# Altium schematic symbol library Усилители.SchLib: 1 symbol
Pins are listed as number, name and electrical type; pins without a type are passive.

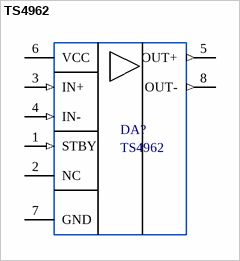
[diagram p0: symbol TS4962]

## TS4962
designator DA?
The TS4962 is a differential class-D BTL power / amplifier. It can drive up to 2.2 W into a 4 Ω load / and 1.4 W into an 8 Ω load at 5 V. It achieves / outstanding efficiency (88% typ.) compared to / standard AB-class audio amps; Part: *; Alternative part: *; ComponentLink1Description: New link; ComponentLink1URL: *; ComponentLink2Description: New link; ComponentLink2URL: *; Value: TS4962
footprint DFN8-0.65
pins: 1 STBY (in), 2 NC, 3 IN+ (in), 4 IN- (in), 5 OUT+ (out), 6 VCC (power), 7 GND (power), 8 OUT- (out)